# EAGLE library part SSM2167 (library adafruit (1))
SSM2167 Microphone conditioner chip
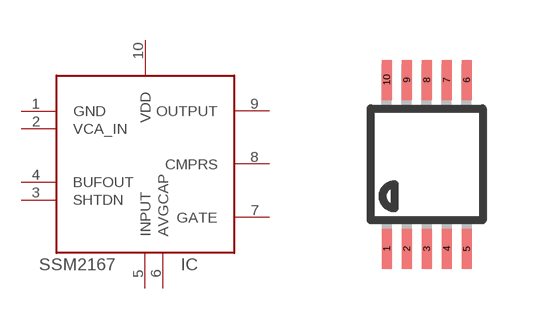
[diagram p34: symbol with the pads of MSOP10; footprint MSOP10]

Designator prefix IC

## SSM2167  [MSOP10]
1  GND  pwr
2  VCA_IN  in
3  SHTDN  in
4  BUFOUT  out
5  INPUT  in
6  AVGCAP  pas
7  GATE  pas
8  CMPRS  pas
9  OUTPUT  out
10  VDD  pwr

## Footprint MSOP10 (pad centres in mm)
10-Lead Mini Small Outline Package [MSOP]
smd 0.25 x 1: 1 -1,-2.113; 2 -0.5,-2.113; 3 0,-2.113; 4 0.5,-2.113; 5 1,-2.113; 6 1,2.113; 7 0.5,2.113; 8 0,2.113; 9 -0.5,2.113; 10 -1,2.113